# Altium footprint library Interface - Differential Signal.PcbLib: 1 footprints
Each footprint in its own frame and in the unit in brackets; x right, y up, seen from the top. Pads: shape width x height; smd on the part's side, far side on the other; paste and mask are expansions set on the pad; w line width, h text height; cw(c..) or ccw(c..) is an arc to the next point about the centre after c.
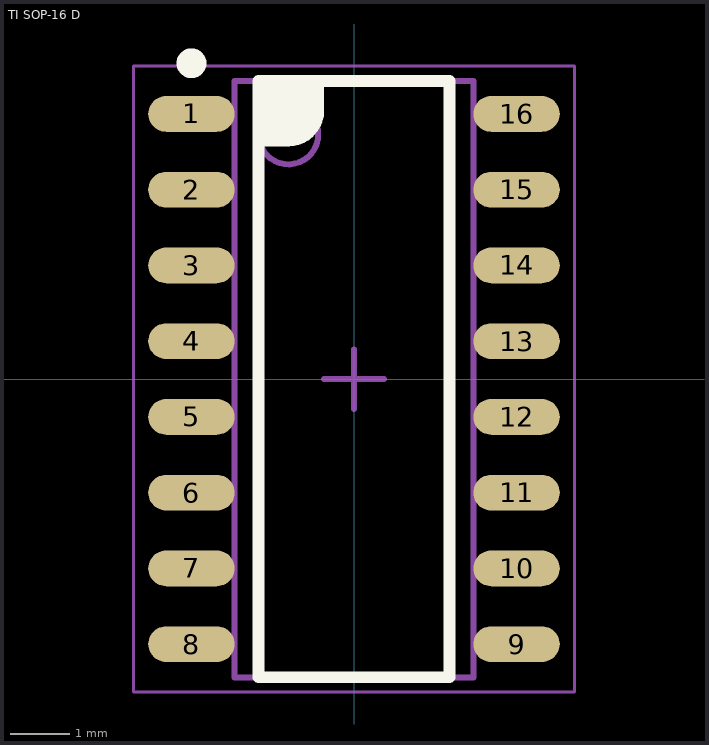
[diagram p0: the footprint, top view; thin cyan lines are the x and y axes]

## TI SOP-16 D [mm] "SOP, 16-Leads, Body 9.90x3.90mm, Pitch 1.27mm, IPC Medium Density"
height 1.75
pads (16):
  oval 1.45x0.6 smd: 1(-2.725,4.445) 2(-2.725,3.175) 3(-2.725,1.905) 4(-2.725,0.635) 5(-2.725,-0.635) 6(-2.725,-1.905) 7(-2.725,-3.175) 8(-2.725,-4.445) 9(2.725,-4.445) 10(2.725,-3.175) 11(2.725,-1.905) 12(2.725,-0.635) 13(2.725,0.635) 14(2.725,1.905) 15(2.725,3.175) 16(2.725,4.445)
Top Overlay:
  circle w0.25: c-2.725,5.295 r0.125
  region: -1.6,5 -1.6,4 -1,4 -0.6,4.4 -0.6,5
  lines w0.2: -1.6,4 -1.1,4 ccw(c-1.1,4.5) -0.6,4.5 -0.6,5 ; -1.6,-5 1.6,-5 1.6,5 -1.6,5 -1.6,-5
Mechanical 13:
  circle w0.1: c-1.1,4.1 r0.5
  lines w0.1: -2,-5 2,-5 2,5 -2,5 -2,-5
Mechanical 15:
  lines w0.05: -3.7,-5.25 3.7,-5.25 3.7,5.25 -3.7,5.25 -3.7,-5.25
  lines w0.1: -0.5,0 0.5,0 ; 0,-0.5 0,0.5
3D body "TI SOP-16 D.step": height 1.75, standoff 0, extent -3,-5 3,5